# EAGLE library part J14 (library tidyeagle)
14 Pin Header 0.1" (2.54mm) spacing.
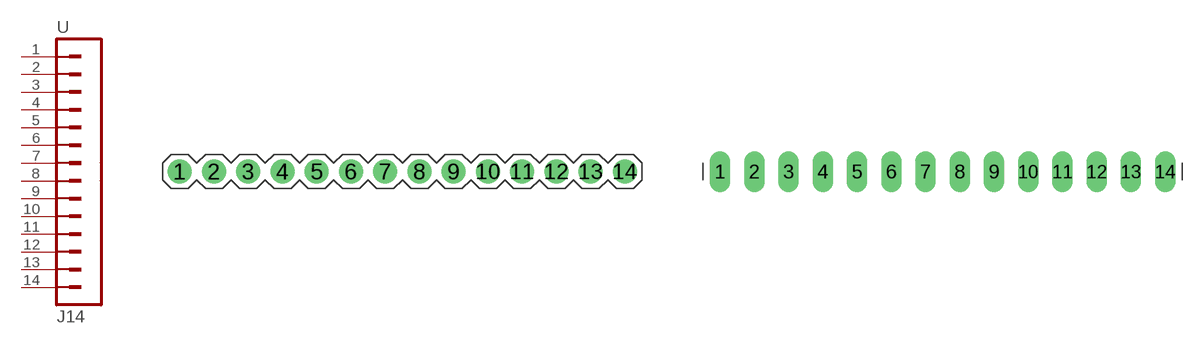
[diagram p12: symbol with the pads of J14; footprints J14, J14-LONG]

Designator prefix -

## J14-ROUND  [J14]
1  1
2  2
3  3
4  4
5  5
6  6
7  7
8  8
9  9
10  10
11  11
12  12
13  13
14  14

## J14-LONG  [J14-LONG]
Pads as for J14

## J14-NOSILK  [J14-NOSILK]
Pads as for J14

## J14-ROUND-POL  [J14-POL]
Pads as for J14

## Footprint J14 (pad centres in mm)
drill 1 pad 1.778: 1 0,0; 2 2.54,0; 3 5.08,0; 4 7.62,0; 5 10.16,0; 6 12.7,0; 7 15.24,0; 8 17.78,0; 9 20.32,0; 10 22.86,0; 11 25.4,0; 12 27.94,0; 13 30.48,0; 14 33.02,0

## Footprint J14-LONG (pad centres in mm)
drill 1 long: 1 0,0; 2 2.54,0; 3 5.08,0; 4 7.62,0; 5 10.16,0; 6 12.7,0; 7 15.24,0; 8 17.78,0; 9 20.32,0; 10 22.86,0; 11 25.4,0; 12 27.94,0; 13 30.48,0; 14 33.02,0

## Footprint J14-NOSILK (pad centres in mm)
drill 1 pad 1.778: 1 0,0; 2 2.54,0; 3 5.08,0; 4 7.62,0; 5 10.16,0; 6 12.7,0; 7 15.24,0; 8 17.78,0; 9 20.32,0; 10 22.86,0; 11 25.4,0; 12 27.94,0; 13 30.48,0; 14 33.02,0

## Footprint J14-POL (pad centres in mm)
drill 1 pad 1.778 square: 1 0,0
drill 1 pad 1.778: 2 2.54,0; 3 5.08,0; 4 7.62,0; 5 10.16,0; 6 12.7,0; 7 15.24,0; 8 17.78,0; 9 20.32,0; 10 22.86,0; 11 25.4,0; 12 27.94,0; 13 30.48,0; 14 33.02,0